# Altium footprint library IPC-SM-782 Section 11.2 SQFP_QFP-Square.PcbLib: 78 footprints (part 7 of 7)
Each footprint in its own frame and in the unit in brackets; x right, y up, seen from the top. Pads: shape width x height; smd on the part's side, far side on the other; paste and mask are expansions set on the pad; w line width, h text height; cw(c..) or ccw(c..) is an arc to the next point about the centre after c.
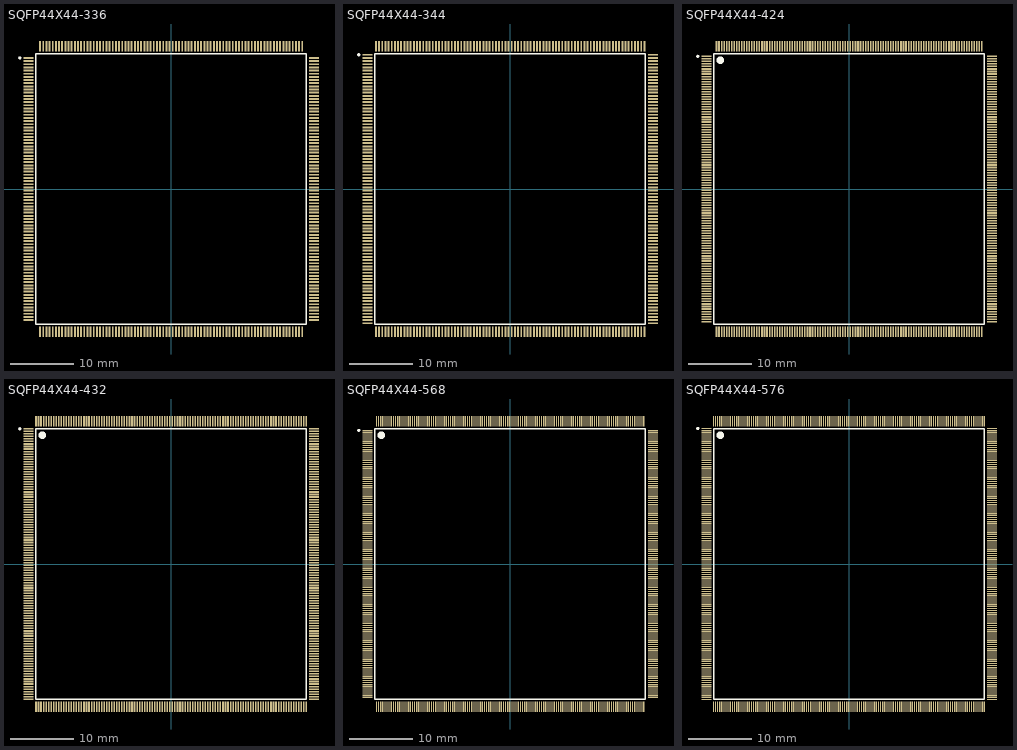
[diagram p6: the footprints below, top view; thin cyan lines are the x and y axes]

## SQFP44X44-336 [mm] "QFP; 336 Leads; Body 44 x 44 mm; Pitch 0.5 mm"
height 4.2
pads (336):
  rect 1.6x0.3 smd: 1(-22.6,20.75) 2(-22.6,20.25) 3(-22.6,19.75) 4(-22.6,19.25) 5(-22.6,18.75) 6(-22.6,18.25) 7(-22.6,17.75) 8(-22.6,17.25) 9(-22.6,16.75) 10(-22.6,16.25) 11(-22.6,15.75) 12(-22.6,15.25) 13(-22.6,14.75) 14(-22.6,14.25) 15(-22.6,13.75) 16(-22.6,13.25) 17(-22.6,12.75) 18(-22.6,12.25) 19(-22.6,11.75) 20(-22.6,11.25) 21(-22.6,10.75) 22(-22.6,10.25) 23(-22.6,9.75) 24(-22.6,9.25) 25(-22.6,8.75) 26(-22.6,8.25) 27(-22.6,7.75) 28(-22.6,7.25) 29(-22.6,6.75) 30(-22.6,6.25) 31(-22.6,5.75) 32(-22.6,5.25) 33(-22.6,4.75) 34(-22.6,4.25) 35(-22.6,3.75) 36(-22.6,3.25) 37(-22.6,2.75) 38(-22.6,2.25) 39(-22.6,1.75) 40(-22.6,1.25) 41(-22.6,0.75) 42(-22.6,0.25) 43(-22.6,-0.25) 44(-22.6,-0.75) 45(-22.6,-1.25) 46(-22.6,-1.75) 47(-22.6,-2.25) 48(-22.6,-2.75) 49(-22.6,-3.25) 50(-22.6,-3.75) 51(-22.6,-4.25) 52(-22.6,-4.75) 53(-22.6,-5.25) 54(-22.6,-5.75) 55(-22.6,-6.25) 56(-22.6,-6.75) 57(-22.6,-7.25) 58(-22.6,-7.75) 59(-22.6,-8.25) 60(-22.6,-8.75) 61(-22.6,-9.25) 62(-22.6,-9.75) 63(-22.6,-10.25) 64(-22.6,-10.75) 65(-22.6,-11.25) 66(-22.6,-11.75) 67(-22.6,-12.25) 68(-22.6,-12.75) 69(-22.6,-13.25) 70(-22.6,-13.75) 71(-22.6,-14.25) 72(-22.6,-14.75) 73(-22.6,-15.25) 74(-22.6,-15.75) 75(-22.6,-16.25) 76(-22.6,-16.75) 77(-22.6,-17.25) 78(-22.6,-17.75) 79(-22.6,-18.25) 80(-22.6,-18.75) 81(-22.6,-19.25) 82(-22.6,-19.75) 83(-22.6,-20.25) 84(-22.6,-20.75) 169(22.6,-20.75) 170(22.6,-20.25) 171(22.6,-19.75) 172(22.6,-19.25) 173(22.6,-18.75) 174(22.6,-18.25) 175(22.6,-17.75) 176(22.6,-17.25) 177(22.6,-16.75) 178(22.6,-16.25) 179(22.6,-15.75) 180(22.6,-15.25) 181(22.6,-14.75) 182(22.6,-14.25) 183(22.6,-13.75) 184(22.6,-13.25) 185(22.6,-12.75) 186(22.6,-12.25) 187(22.6,-11.75) 188(22.6,-11.25) 189(22.6,-10.75) 190(22.6,-10.25) 191(22.6,-9.75) 192(22.6,-9.25) 193(22.6,-8.75) 194(22.6,-8.25) 195(22.6,-7.75) 196(22.6,-7.25) 197(22.6,-6.75) 198(22.6,-6.25) 199(22.6,-5.75) 200(22.6,-5.25) 201(22.6,-4.75) 202(22.6,-4.25) 203(22.6,-3.75) 204(22.6,-3.25) 205(22.6,-2.75) 206(22.6,-2.25) 207(22.6,-1.75) 208(22.6,-1.25) 209(22.6,-0.75) 210(22.6,-0.25) 211(22.6,0.25) 212(22.6,0.75) 213(22.6,1.25) 214(22.6,1.75) 215(22.6,2.25) 216(22.6,2.75) 217(22.6,3.25) 218(22.6,3.75) 219(22.6,4.25) 220(22.6,4.75) 221(22.6,5.25) 222(22.6,5.75) 223(22.6,6.25) 224(22.6,6.75) 225(22.6,7.25) 226(22.6,7.75) 227(22.6,8.25) 228(22.6,8.75) 229(22.6,9.25) 230(22.6,9.75) 231(22.6,10.25) 232(22.6,10.75) 233(22.6,11.25) 234(22.6,11.75) 235(22.6,12.25) 236(22.6,12.75) 237(22.6,13.25) 238(22.6,13.75) 239(22.6,14.25) 240(22.6,14.75) 241(22.6,15.25) 242(22.6,15.75) 243(22.6,16.25) 244(22.6,16.75) 245(22.6,17.25) 246(22.6,17.75) 247(22.6,18.25) 248(22.6,18.75) 249(22.6,19.25) 250(22.6,19.75) 251(22.6,20.25) 252(22.6,20.75)
  rect 0.3x1.6 smd: 85(-20.75,-22.6) 86(-20.25,-22.6) 87(-19.75,-22.6) 88(-19.25,-22.6) 89(-18.75,-22.6) 90(-18.25,-22.6) 91(-17.75,-22.6) 92(-17.25,-22.6) 93(-16.75,-22.6) 94(-16.25,-22.6) 95(-15.75,-22.6) 96(-15.25,-22.6) 97(-14.75,-22.6) 98(-14.25,-22.6) 99(-13.75,-22.6) 100(-13.25,-22.6) 101(-12.75,-22.6) 102(-12.25,-22.6) 103(-11.75,-22.6) 104(-11.25,-22.6) 105(-10.75,-22.6) 106(-10.25,-22.6) 107(-9.75,-22.6) 108(-9.25,-22.6) 109(-8.75,-22.6) 110(-8.25,-22.6) 111(-7.75,-22.6) 112(-7.25,-22.6) 113(-6.75,-22.6) 114(-6.25,-22.6) 115(-5.75,-22.6) 116(-5.25,-22.6) 117(-4.75,-22.6) 118(-4.25,-22.6) 119(-3.75,-22.6) 120(-3.25,-22.6) 121(-2.75,-22.6) 122(-2.25,-22.6) 123(-1.75,-22.6) 124(-1.25,-22.6) 125(-0.75,-22.6) 126(-0.25,-22.6) 127(0.25,-22.6) 128(0.75,-22.6) 129(1.25,-22.6) 130(1.75,-22.6) 131(2.25,-22.6) 132(2.75,-22.6) 133(3.25,-22.6) 134(3.75,-22.6) 135(4.25,-22.6) 136(4.75,-22.6) 137(5.25,-22.6) 138(5.75,-22.6) 139(6.25,-22.6) 140(6.75,-22.6) 141(7.25,-22.6) 142(7.75,-22.6) 143(8.25,-22.6) 144(8.75,-22.6) 145(9.25,-22.6) 146(9.75,-22.6) 147(10.25,-22.6) 148(10.75,-22.6) 149(11.25,-22.6) 150(11.75,-22.6) 151(12.25,-22.6) 152(12.75,-22.6) 153(13.25,-22.6) 154(13.75,-22.6) 155(14.25,-22.6) 156(14.75,-22.6) 157(15.25,-22.6) 158(15.75,-22.6) 159(16.25,-22.6) 160(16.75,-22.6) 161(17.25,-22.6) 162(17.75,-22.6) 163(18.25,-22.6) 164(18.75,-22.6) 165(19.25,-22.6) 166(19.75,-22.6) 167(20.25,-22.6) 168(20.75,-22.6) 253(20.75,22.6) 254(20.25,22.6) 255(19.75,22.6) 256(19.25,22.6) 257(18.75,22.6) 258(18.25,22.6) 259(17.75,22.6) 260(17.25,22.6) 261(16.75,22.6) 262(16.25,22.6) 263(15.75,22.6) 264(15.25,22.6) 265(14.75,22.6) 266(14.25,22.6) 267(13.75,22.6) 268(13.25,22.6) 269(12.75,22.6) 270(12.25,22.6) 271(11.75,22.6) 272(11.25,22.6) 273(10.75,22.6) 274(10.25,22.6) 275(9.75,22.6) 276(9.25,22.6) 277(8.75,22.6) 278(8.25,22.6) 279(7.75,22.6) 280(7.25,22.6) 281(6.75,22.6) 282(6.25,22.6) 283(5.75,22.6) 284(5.25,22.6) 285(4.75,22.6) 286(4.25,22.6) 287(3.75,22.6) 288(3.25,22.6) 289(2.75,22.6) 290(2.25,22.6) 291(1.75,22.6) 292(1.25,22.6) 293(0.75,22.6) 294(0.25,22.6) 295(-0.25,22.6) 296(-0.75,22.6) 297(-1.25,22.6) 298(-1.75,22.6) 299(-2.25,22.6) 300(-2.75,22.6) 301(-3.25,22.6) 302(-3.75,22.6) 303(-4.25,22.6) 304(-4.75,22.6) 305(-5.25,22.6) 306(-5.75,22.6) 307(-6.25,22.6) 308(-6.75,22.6) 309(-7.25,22.6) 310(-7.75,22.6) 311(-8.25,22.6) 312(-8.75,22.6) 313(-9.25,22.6) 314(-9.75,22.6) 315(-10.25,22.6) 316(-10.75,22.6) 317(-11.25,22.6) 318(-11.75,22.6) 319(-12.25,22.6) 320(-12.75,22.6) 321(-13.25,22.6) 322(-13.75,22.6) 323(-14.25,22.6) 324(-14.75,22.6) 325(-15.25,22.6) 326(-15.75,22.6) 327(-16.25,22.6) 328(-16.75,22.6) 329(-17.25,22.6) 330(-17.75,22.6) 331(-18.25,22.6) 332(-18.75,22.6) 333(-19.25,22.6) 334(-19.75,22.6) 335(-20.25,22.6) 336(-20.75,22.6)
Top Overlay:
  circle w0.25: c-23.96,20.75 r0.125
  lines w0.2: -21.4,-21.4 21.4,-21.4 21.4,21.4 -21.4,21.4 -21.4,-21.4

## SQFP44X44-344 [mm] "QFP; 344 Leads; Body 44 x 44 mm; Pitch 0.5 mm"
height 4.2
pads (344):
  rect 1.6x0.3 smd: 1(-22.6,21.25) 2(-22.6,20.75) 3(-22.6,20.25) 4(-22.6,19.75) 5(-22.6,19.25) 6(-22.6,18.75) 7(-22.6,18.25) 8(-22.6,17.75) 9(-22.6,17.25) 10(-22.6,16.75) 11(-22.6,16.25) 12(-22.6,15.75) 13(-22.6,15.25) 14(-22.6,14.75) 15(-22.6,14.25) 16(-22.6,13.75) 17(-22.6,13.25) 18(-22.6,12.75) 19(-22.6,12.25) 20(-22.6,11.75) 21(-22.6,11.25) 22(-22.6,10.75) 23(-22.6,10.25) 24(-22.6,9.75) 25(-22.6,9.25) 26(-22.6,8.75) 27(-22.6,8.25) 28(-22.6,7.75) 29(-22.6,7.25) 30(-22.6,6.75) 31(-22.6,6.25) 32(-22.6,5.75) 33(-22.6,5.25) 34(-22.6,4.75) 35(-22.6,4.25) 36(-22.6,3.75) 37(-22.6,3.25) 38(-22.6,2.75) 39(-22.6,2.25) 40(-22.6,1.75) 41(-22.6,1.25) 42(-22.6,0.75) 43(-22.6,0.25) 44(-22.6,-0.25) 45(-22.6,-0.75) 46(-22.6,-1.25) 47(-22.6,-1.75) 48(-22.6,-2.25) 49(-22.6,-2.75) 50(-22.6,-3.25) 51(-22.6,-3.75) 52(-22.6,-4.25) 53(-22.6,-4.75) 54(-22.6,-5.25) 55(-22.6,-5.75) 56(-22.6,-6.25) 57(-22.6,-6.75) 58(-22.6,-7.25) 59(-22.6,-7.75) 60(-22.6,-8.25) 61(-22.6,-8.75) 62(-22.6,-9.25) 63(-22.6,-9.75) 64(-22.6,-10.25) 65(-22.6,-10.75) 66(-22.6,-11.25) 67(-22.6,-11.75) 68(-22.6,-12.25) 69(-22.6,-12.75) 70(-22.6,-13.25) 71(-22.6,-13.75) 72(-22.6,-14.25) 73(-22.6,-14.75) 74(-22.6,-15.25) 75(-22.6,-15.75) 76(-22.6,-16.25) 77(-22.6,-16.75) 78(-22.6,-17.25) 79(-22.6,-17.75) 80(-22.6,-18.25) 81(-22.6,-18.75) 82(-22.6,-19.25) 83(-22.6,-19.75) 84(-22.6,-20.25) 85(-22.6,-20.75) 86(-22.6,-21.25) 173(22.6,-21.25) 174(22.6,-20.75) 175(22.6,-20.25) 176(22.6,-19.75) 177(22.6,-19.25) 178(22.6,-18.75) 179(22.6,-18.25) 180(22.6,-17.75) 181(22.6,-17.25) 182(22.6,-16.75) 183(22.6,-16.25) 184(22.6,-15.75) 185(22.6,-15.25) 186(22.6,-14.75) 187(22.6,-14.25) 188(22.6,-13.75) 189(22.6,-13.25) 190(22.6,-12.75) 191(22.6,-12.25) 192(22.6,-11.75) 193(22.6,-11.25) 194(22.6,-10.75) 195(22.6,-10.25) 196(22.6,-9.75) 197(22.6,-9.25) 198(22.6,-8.75) 199(22.6,-8.25) 200(22.6,-7.75) 201(22.6,-7.25) 202(22.6,-6.75) 203(22.6,-6.25) 204(22.6,-5.75) 205(22.6,-5.25) 206(22.6,-4.75) 207(22.6,-4.25) 208(22.6,-3.75) 209(22.6,-3.25) 210(22.6,-2.75) 211(22.6,-2.25) 212(22.6,-1.75) 213(22.6,-1.25) 214(22.6,-0.75) 215(22.6,-0.25) 216(22.6,0.25) 217(22.6,0.75) 218(22.6,1.25) 219(22.6,1.75) 220(22.6,2.25) 221(22.6,2.75) 222(22.6,3.25) 223(22.6,3.75) 224(22.6,4.25) 225(22.6,4.75) 226(22.6,5.25) 227(22.6,5.75) 228(22.6,6.25) 229(22.6,6.75) 230(22.6,7.25) 231(22.6,7.75) 232(22.6,8.25) 233(22.6,8.75) 234(22.6,9.25) 235(22.6,9.75) 236(22.6,10.25) 237(22.6,10.75) 238(22.6,11.25) 239(22.6,11.75) 240(22.6,12.25) 241(22.6,12.75) 242(22.6,13.25) 243(22.6,13.75) 244(22.6,14.25) 245(22.6,14.75) 246(22.6,15.25) 247(22.6,15.75) 248(22.6,16.25) 249(22.6,16.75) 250(22.6,17.25) 251(22.6,17.75) 252(22.6,18.25) 253(22.6,18.75) 254(22.6,19.25) 255(22.6,19.75) 256(22.6,20.25) 257(22.6,20.75) 258(22.6,21.25)
  rect 0.3x1.6 smd: 87(-21.25,-22.6) 88(-20.75,-22.6) 89(-20.25,-22.6) 90(-19.75,-22.6) 91(-19.25,-22.6) 92(-18.75,-22.6) 93(-18.25,-22.6) 94(-17.75,-22.6) 95(-17.25,-22.6) 96(-16.75,-22.6) 97(-16.25,-22.6) 98(-15.75,-22.6) 99(-15.25,-22.6) 100(-14.75,-22.6) 101(-14.25,-22.6) 102(-13.75,-22.6) 103(-13.25,-22.6) 104(-12.75,-22.6) 105(-12.25,-22.6) 106(-11.75,-22.6) 107(-11.25,-22.6) 108(-10.75,-22.6) 109(-10.25,-22.6) 110(-9.75,-22.6) 111(-9.25,-22.6) 112(-8.75,-22.6) 113(-8.25,-22.6) 114(-7.75,-22.6) 115(-7.25,-22.6) 116(-6.75,-22.6) 117(-6.25,-22.6) 118(-5.75,-22.6) 119(-5.25,-22.6) 120(-4.75,-22.6) 121(-4.25,-22.6) 122(-3.75,-22.6) 123(-3.25,-22.6) 124(-2.75,-22.6) 125(-2.25,-22.6) 126(-1.75,-22.6) 127(-1.25,-22.6) 128(-0.75,-22.6) 129(-0.25,-22.6) 130(0.25,-22.6) 131(0.75,-22.6) 132(1.25,-22.6) 133(1.75,-22.6) 134(2.25,-22.6) 135(2.75,-22.6) 136(3.25,-22.6) 137(3.75,-22.6) 138(4.25,-22.6) 139(4.75,-22.6) 140(5.25,-22.6) 141(5.75,-22.6) 142(6.25,-22.6) 143(6.75,-22.6) 144(7.25,-22.6) 145(7.75,-22.6) 146(8.25,-22.6) 147(8.75,-22.6) 148(9.25,-22.6) 149(9.75,-22.6) 150(10.25,-22.6) 151(10.75,-22.6) 152(11.25,-22.6) 153(11.75,-22.6) 154(12.25,-22.6) 155(12.75,-22.6) 156(13.25,-22.6) 157(13.75,-22.6) 158(14.25,-22.6) 159(14.75,-22.6) 160(15.25,-22.6) 161(15.75,-22.6) 162(16.25,-22.6) 163(16.75,-22.6) 164(17.25,-22.6) 165(17.75,-22.6) 166(18.25,-22.6) 167(18.75,-22.6) 168(19.25,-22.6) 169(19.75,-22.6) 170(20.25,-22.6) 171(20.75,-22.6) 172(21.25,-22.6) 259(21.25,22.6) 260(20.75,22.6) 261(20.25,22.6) 262(19.75,22.6) 263(19.25,22.6) 264(18.75,22.6) 265(18.25,22.6) 266(17.75,22.6) 267(17.25,22.6) 268(16.75,22.6) 269(16.25,22.6) 270(15.75,22.6) 271(15.25,22.6) 272(14.75,22.6) 273(14.25,22.6) 274(13.75,22.6) 275(13.25,22.6) 276(12.75,22.6) 277(12.25,22.6) 278(11.75,22.6) 279(11.25,22.6) 280(10.75,22.6) 281(10.25,22.6) 282(9.75,22.6) 283(9.25,22.6) 284(8.75,22.6) 285(8.25,22.6) 286(7.75,22.6) 287(7.25,22.6) 288(6.75,22.6) 289(6.25,22.6) 290(5.75,22.6) 291(5.25,22.6) 292(4.75,22.6) 293(4.25,22.6) 294(3.75,22.6) 295(3.25,22.6) 296(2.75,22.6) 297(2.25,22.6) 298(1.75,22.6) 299(1.25,22.6) 300(0.75,22.6) 301(0.25,22.6) 302(-0.25,22.6) 303(-0.75,22.6) 304(-1.25,22.6) 305(-1.75,22.6) 306(-2.25,22.6) 307(-2.75,22.6) 308(-3.25,22.6) 309(-3.75,22.6) 310(-4.25,22.6) 311(-4.75,22.6) 312(-5.25,22.6) 313(-5.75,22.6) 314(-6.25,22.6) 315(-6.75,22.6) 316(-7.25,22.6) 317(-7.75,22.6) 318(-8.25,22.6) 319(-8.75,22.6) 320(-9.25,22.6) 321(-9.75,22.6) 322(-10.25,22.6) 323(-10.75,22.6) 324(-11.25,22.6) 325(-11.75,22.6) 326(-12.25,22.6) 327(-12.75,22.6) 328(-13.25,22.6) 329(-13.75,22.6) 330(-14.25,22.6) 331(-14.75,22.6) 332(-15.25,22.6) 333(-15.75,22.6) 334(-16.25,22.6) 335(-16.75,22.6) 336(-17.25,22.6) 337(-17.75,22.6) 338(-18.25,22.6) 339(-18.75,22.6) 340(-19.25,22.6) 341(-19.75,22.6) 342(-20.25,22.6) 343(-20.75,22.6) 344(-21.25,22.6)
Top Overlay:
  circle w0.25: c-23.96,21.25 r0.125
  lines w0.2: -21.4,-21.4 21.4,-21.4 21.4,21.4 -21.4,21.4 -21.4,-21.4

## SQFP44X44-424 [mm] "QFP; 424 Leads; Body 44 x 44 mm; Pitch 0.4 mm"
height 4.2
pads (424):
  rect 1.6x0.25 smd: 1(-22.6,21) 2(-22.6,20.6) 3(-22.6,20.2) 4(-22.6,19.8) 5(-22.6,19.4) 6(-22.6,19) 7(-22.6,18.6) 8(-22.6,18.2) 9(-22.6,17.8) 10(-22.6,17.4) 11(-22.6,17) 12(-22.6,16.6) 13(-22.6,16.2) 14(-22.6,15.8) 15(-22.6,15.4) 16(-22.6,15) 17(-22.6,14.6) 18(-22.6,14.2) 19(-22.6,13.8) 20(-22.6,13.4) 21(-22.6,13) 22(-22.6,12.6) 23(-22.6,12.2) 24(-22.6,11.8) 25(-22.6,11.4) 26(-22.6,11) 27(-22.6,10.6) 28(-22.6,10.2) 29(-22.6,9.8) 30(-22.6,9.4) 31(-22.6,9) 32(-22.6,8.6) 33(-22.6,8.2) 34(-22.6,7.8) 35(-22.6,7.4) 36(-22.6,7) 37(-22.6,6.6) 38(-22.6,6.2) 39(-22.6,5.8) 40(-22.6,5.4) 41(-22.6,5) 42(-22.6,4.6) 43(-22.6,4.2) 44(-22.6,3.8) 45(-22.6,3.4) 46(-22.6,3) 47(-22.6,2.6) 48(-22.6,2.2) 49(-22.6,1.8) 50(-22.6,1.4) 51(-22.6,1) 52(-22.6,0.6) 53(-22.6,0.2) 54(-22.6,-0.2) 55(-22.6,-0.6) 56(-22.6,-1) 57(-22.6,-1.4) 58(-22.6,-1.8) 59(-22.6,-2.2) 60(-22.6,-2.6) 61(-22.6,-3) 62(-22.6,-3.4) 63(-22.6,-3.8) 64(-22.6,-4.2) 65(-22.6,-4.6) 66(-22.6,-5) 67(-22.6,-5.4) 68(-22.6,-5.8) 69(-22.6,-6.2) 70(-22.6,-6.6) 71(-22.6,-7) 72(-22.6,-7.4) 73(-22.6,-7.8) 74(-22.6,-8.2) 75(-22.6,-8.6) 76(-22.6,-9) 77(-22.6,-9.4) 78(-22.6,-9.8) 79(-22.6,-10.2) 80(-22.6,-10.6) 81(-22.6,-11) 82(-22.6,-11.4) 83(-22.6,-11.8) 84(-22.6,-12.2) 85(-22.6,-12.6) 86(-22.6,-13) 87(-22.6,-13.4) 88(-22.6,-13.8) 89(-22.6,-14.2) 90(-22.6,-14.6) 91(-22.6,-15) 92(-22.6,-15.4) 93(-22.6,-15.8) 94(-22.6,-16.2) 95(-22.6,-16.6) 96(-22.6,-17) 97(-22.6,-17.4) 98(-22.6,-17.8) 99(-22.6,-18.2) 100(-22.6,-18.6) 101(-22.6,-19) 102(-22.6,-19.4) 103(-22.6,-19.8) 104(-22.6,-20.2) 105(-22.6,-20.6) 106(-22.6,-21) 213(22.6,-21) 214(22.6,-20.6) 215(22.6,-20.2) 216(22.6,-19.8) 217(22.6,-19.4) 218(22.6,-19) 219(22.6,-18.6) 220(22.6,-18.2) 221(22.6,-17.8) 222(22.6,-17.4) 223(22.6,-17) 224(22.6,-16.6) 225(22.6,-16.2) 226(22.6,-15.8) 227(22.6,-15.4) 228(22.6,-15) 229(22.6,-14.6) 230(22.6,-14.2) 231(22.6,-13.8) 232(22.6,-13.4) 233(22.6,-13) 234(22.6,-12.6) 235(22.6,-12.2) 236(22.6,-11.8) 237(22.6,-11.4) 238(22.6,-11) 239(22.6,-10.6) 240(22.6,-10.2) 241(22.6,-9.8) 242(22.6,-9.4) 243(22.6,-9) 244(22.6,-8.6) 245(22.6,-8.2) 246(22.6,-7.8) 247(22.6,-7.4) 248(22.6,-7) 249(22.6,-6.6) 250(22.6,-6.2) 251(22.6,-5.8) 252(22.6,-5.4) 253(22.6,-5) 254(22.6,-4.6) 255(22.6,-4.2) 256(22.6,-3.8) 257(22.6,-3.4) 258(22.6,-3) 259(22.6,-2.6) 260(22.6,-2.2) 261(22.6,-1.8) 262(22.6,-1.4) 263(22.6,-1) 264(22.6,-0.6) 265(22.6,-0.2) 266(22.6,0.2) 267(22.6,0.6) 268(22.6,1) 269(22.6,1.4) 270(22.6,1.8) 271(22.6,2.2) 272(22.6,2.6) 273(22.6,3) 274(22.6,3.4) 275(22.6,3.8) 276(22.6,4.2) 277(22.6,4.6) 278(22.6,5) 279(22.6,5.4) 280(22.6,5.8) 281(22.6,6.2) 282(22.6,6.6) 283(22.6,7) 284(22.6,7.4) 285(22.6,7.8) 286(22.6,8.2) 287(22.6,8.6) 288(22.6,9) 289(22.6,9.4) 290(22.6,9.8) 291(22.6,10.2) 292(22.6,10.6) 293(22.6,11) 294(22.6,11.4) 295(22.6,11.8) 296(22.6,12.2) 297(22.6,12.6) 298(22.6,13) 299(22.6,13.4) 300(22.6,13.8) 301(22.6,14.2) 302(22.6,14.6) 303(22.6,15) 304(22.6,15.4) 305(22.6,15.8) 306(22.6,16.2) 307(22.6,16.6) 308(22.6,17) 309(22.6,17.4) 310(22.6,17.8) 311(22.6,18.2) 312(22.6,18.6) 313(22.6,19) 314(22.6,19.4) 315(22.6,19.8) 316(22.6,20.2) 317(22.6,20.6) 318(22.6,21)
  rect 0.25x1.6 smd: 107(-21,-22.6) 108(-20.6,-22.6) 109(-20.2,-22.6) 110(-19.8,-22.6) 111(-19.4,-22.6) 112(-19,-22.6) 113(-18.6,-22.6) 114(-18.2,-22.6) 115(-17.8,-22.6) 116(-17.4,-22.6) 117(-17,-22.6) 118(-16.6,-22.6) 119(-16.2,-22.6) 120(-15.8,-22.6) 121(-15.4,-22.6) 122(-15,-22.6) 123(-14.6,-22.6) 124(-14.2,-22.6) 125(-13.8,-22.6) 126(-13.4,-22.6) 127(-13,-22.6) 128(-12.6,-22.6) 129(-12.2,-22.6) 130(-11.8,-22.6) 131(-11.4,-22.6) 132(-11,-22.6) 133(-10.6,-22.6) 134(-10.2,-22.6) 135(-9.8,-22.6) 136(-9.4,-22.6) 137(-9,-22.6) 138(-8.6,-22.6) 139(-8.2,-22.6) 140(-7.8,-22.6) 141(-7.4,-22.6) 142(-7,-22.6) 143(-6.6,-22.6) 144(-6.2,-22.6) 145(-5.8,-22.6) 146(-5.4,-22.6) 147(-5,-22.6) 148(-4.6,-22.6) 149(-4.2,-22.6) 150(-3.8,-22.6) 151(-3.4,-22.6) 152(-3,-22.6) 153(-2.6,-22.6) 154(-2.2,-22.6) 155(-1.8,-22.6) 156(-1.4,-22.6) 157(-1,-22.6) 158(-0.6,-22.6) 159(-0.2,-22.6) 160(0.2,-22.6) 161(0.6,-22.6) 162(1,-22.6) 163(1.4,-22.6) 164(1.8,-22.6) 165(2.2,-22.6) 166(2.6,-22.6) 167(3,-22.6) 168(3.4,-22.6) 169(3.8,-22.6) 170(4.2,-22.6) 171(4.6,-22.6) 172(5,-22.6) 173(5.4,-22.6) 174(5.8,-22.6) 175(6.2,-22.6) 176(6.6,-22.6) 177(7,-22.6) 178(7.4,-22.6) 179(7.8,-22.6) 180(8.2,-22.6) 181(8.6,-22.6) 182(9,-22.6) 183(9.4,-22.6) 184(9.8,-22.6) 185(10.2,-22.6) 186(10.6,-22.6) 187(11,-22.6) 188(11.4,-22.6) 189(11.8,-22.6) 190(12.2,-22.6) 191(12.6,-22.6) 192(13,-22.6) 193(13.4,-22.6) 194(13.8,-22.6) 195(14.2,-22.6) 196(14.6,-22.6) 197(15,-22.6) 198(15.4,-22.6) 199(15.8,-22.6) 200(16.2,-22.6) 201(16.6,-22.6) 202(17,-22.6) 203(17.4,-22.6) 204(17.8,-22.6) 205(18.2,-22.6) 206(18.6,-22.6) 207(19,-22.6) 208(19.4,-22.6) 209(19.8,-22.6) 210(20.2,-22.6) 211(20.6,-22.6) 212(21,-22.6) 319(21,22.6) 320(20.6,22.6) 321(20.2,22.6) 322(19.8,22.6) 323(19.4,22.6) 324(19,22.6) 325(18.6,22.6) 326(18.2,22.6) 327(17.8,22.6) 328(17.4,22.6) 329(17,22.6) 330(16.6,22.6) 331(16.2,22.6) 332(15.8,22.6) 333(15.4,22.6) 334(15,22.6) 335(14.6,22.6) 336(14.2,22.6) 337(13.8,22.6) 338(13.4,22.6) 339(13,22.6) 340(12.6,22.6) 341(12.2,22.6) 342(11.8,22.6) 343(11.4,22.6) 344(11,22.6) 345(10.6,22.6) 346(10.2,22.6) 347(9.8,22.6) 348(9.4,22.6) 349(9,22.6) 350(8.6,22.6) 351(8.2,22.6) 352(7.8,22.6) 353(7.4,22.6) 354(7,22.6) 355(6.6,22.6) 356(6.2,22.6) 357(5.8,22.6) 358(5.4,22.6) 359(5,22.6) 360(4.6,22.6) 361(4.2,22.6) 362(3.8,22.6) 363(3.4,22.6) 364(3,22.6) 365(2.6,22.6) 366(2.2,22.6) 367(1.8,22.6) 368(1.4,22.6) 369(1,22.6) 370(0.6,22.6) 371(0.2,22.6) 372(-0.2,22.6) 373(-0.6,22.6) 374(-1,22.6) 375(-1.4,22.6) 376(-1.8,22.6) 377(-2.2,22.6) 378(-2.6,22.6) 379(-3,22.6) 380(-3.4,22.6) 381(-3.8,22.6) 382(-4.2,22.6) 383(-4.6,22.6) 384(-5,22.6) 385(-5.4,22.6) 386(-5.8,22.6) 387(-6.2,22.6) 388(-6.6,22.6) 389(-7,22.6) 390(-7.4,22.6) 391(-7.8,22.6) 392(-8.2,22.6) 393(-8.6,22.6) 394(-9,22.6) 395(-9.4,22.6) 396(-9.8,22.6) 397(-10.2,22.6) 398(-10.6,22.6) 399(-11,22.6) 400(-11.4,22.6) 401(-11.8,22.6) 402(-12.2,22.6) 403(-12.6,22.6) 404(-13,22.6) 405(-13.4,22.6) 406(-13.8,22.6) 407(-14.2,22.6) 408(-14.6,22.6) 409(-15,22.6) 410(-15.4,22.6) 411(-15.8,22.6) 412(-16.2,22.6) 413(-16.6,22.6) 414(-17,22.6) 415(-17.4,22.6) 416(-17.8,22.6) 417(-18.2,22.6) 418(-18.6,22.6) 419(-19,22.6) 420(-19.4,22.6) 421(-19.8,22.6) 422(-20.2,22.6) 423(-20.6,22.6) 424(-21,22.6)
Top Overlay:
  circle w0.25: c-23.96,21 r0.125
  circle w0.6: c-20.4,20.4 r0.3
  lines w0.2: -21.4,-21.4 -21.4,21.4 21.4,21.4 21.4,-21.4 -21.4,-21.4

## SQFP44X44-432 [mm] "QFP; 432 Leads; Body 44 x 44 mm; Pitch 0.4 mm"
height 4.2
pads (432):
  rect 1.6x0.25 smd: 1(-22.6,21.4) 2(-22.6,21) 3(-22.6,20.6) 4(-22.6,20.2) 5(-22.6,19.8) 6(-22.6,19.4) 7(-22.6,19) 8(-22.6,18.6) 9(-22.6,18.2) 10(-22.6,17.8) 11(-22.6,17.4) 12(-22.6,17) 13(-22.6,16.6) 14(-22.6,16.2) 15(-22.6,15.8) 16(-22.6,15.4) 17(-22.6,15) 18(-22.6,14.6) 19(-22.6,14.2) 20(-22.6,13.8) 21(-22.6,13.4) 22(-22.6,13) 23(-22.6,12.6) 24(-22.6,12.2) 25(-22.6,11.8) 26(-22.6,11.4) 27(-22.6,11) 28(-22.6,10.6) 29(-22.6,10.2) 30(-22.6,9.8) 31(-22.6,9.4) 32(-22.6,9) 33(-22.6,8.6) 34(-22.6,8.2) 35(-22.6,7.8) 36(-22.6,7.4) 37(-22.6,7) 38(-22.6,6.6) 39(-22.6,6.2) 40(-22.6,5.8) 41(-22.6,5.4) 42(-22.6,5) 43(-22.6,4.6) 44(-22.6,4.2) 45(-22.6,3.8) 46(-22.6,3.4) 47(-22.6,3) 48(-22.6,2.6) 49(-22.6,2.2) 50(-22.6,1.8) 51(-22.6,1.4) 52(-22.6,1) 53(-22.6,0.6) 54(-22.6,0.2) 55(-22.6,-0.2) 56(-22.6,-0.6) 57(-22.6,-1) 58(-22.6,-1.4) 59(-22.6,-1.8) 60(-22.6,-2.2) 61(-22.6,-2.6) 62(-22.6,-3) 63(-22.6,-3.4) 64(-22.6,-3.8) 65(-22.6,-4.2) 66(-22.6,-4.6) 67(-22.6,-5) 68(-22.6,-5.4) 69(-22.6,-5.8) 70(-22.6,-6.2) 71(-22.6,-6.6) 72(-22.6,-7) 73(-22.6,-7.4) 74(-22.6,-7.8) 75(-22.6,-8.2) 76(-22.6,-8.6) 77(-22.6,-9) 78(-22.6,-9.4) 79(-22.6,-9.8) 80(-22.6,-10.2) 81(-22.6,-10.6) 82(-22.6,-11) 83(-22.6,-11.4) 84(-22.6,-11.8) 85(-22.6,-12.2) 86(-22.6,-12.6) 87(-22.6,-13) 88(-22.6,-13.4) 89(-22.6,-13.8) 90(-22.6,-14.2) 91(-22.6,-14.6) 92(-22.6,-15) 93(-22.6,-15.4) 94(-22.6,-15.8) 95(-22.6,-16.2) 96(-22.6,-16.6) 97(-22.6,-17) 98(-22.6,-17.4) 99(-22.6,-17.8) 100(-22.6,-18.2) 101(-22.6,-18.6) 102(-22.6,-19) 103(-22.6,-19.4) 104(-22.6,-19.8) 105(-22.6,-20.2) 106(-22.6,-20.6) 107(-22.6,-21) 108(-22.6,-21.4) 217(22.6,-21.4) 218(22.6,-21) 219(22.6,-20.6) 220(22.6,-20.2) 221(22.6,-19.8) 222(22.6,-19.4) 223(22.6,-19) 224(22.6,-18.6) 225(22.6,-18.2) 226(22.6,-17.8) 227(22.6,-17.4) 228(22.6,-17) 229(22.6,-16.6) 230(22.6,-16.2) 231(22.6,-15.8) 232(22.6,-15.4) 233(22.6,-15) 234(22.6,-14.6) 235(22.6,-14.2) 236(22.6,-13.8) 237(22.6,-13.4) 238(22.6,-13) 239(22.6,-12.6) 240(22.6,-12.2) 241(22.6,-11.8) 242(22.6,-11.4) 243(22.6,-11) 244(22.6,-10.6) 245(22.6,-10.2) 246(22.6,-9.8) 247(22.6,-9.4) 248(22.6,-9) 249(22.6,-8.6) 250(22.6,-8.2) 251(22.6,-7.8) 252(22.6,-7.4) 253(22.6,-7) 254(22.6,-6.6) 255(22.6,-6.2) 256(22.6,-5.8) 257(22.6,-5.4) 258(22.6,-5) 259(22.6,-4.6) 260(22.6,-4.2) 261(22.6,-3.8) 262(22.6,-3.4) 263(22.6,-3) 264(22.6,-2.6) 265(22.6,-2.2) 266(22.6,-1.8) 267(22.6,-1.4) 268(22.6,-1) 269(22.6,-0.6) 270(22.6,-0.2) 271(22.6,0.2) 272(22.6,0.6) 273(22.6,1) 274(22.6,1.4) 275(22.6,1.8) 276(22.6,2.2) 277(22.6,2.6) 278(22.6,3) 279(22.6,3.4) 280(22.6,3.8) 281(22.6,4.2) 282(22.6,4.6) 283(22.6,5) 284(22.6,5.4) 285(22.6,5.8) 286(22.6,6.2) 287(22.6,6.6) 288(22.6,7) 289(22.6,7.4) 290(22.6,7.8) 291(22.6,8.2) 292(22.6,8.6) 293(22.6,9) 294(22.6,9.4) 295(22.6,9.8) 296(22.6,10.2) 297(22.6,10.6) 298(22.6,11) 299(22.6,11.4) 300(22.6,11.8) 301(22.6,12.2) 302(22.6,12.6) 303(22.6,13) 304(22.6,13.4) 305(22.6,13.8) 306(22.6,14.2) 307(22.6,14.6) 308(22.6,15) 309(22.6,15.4) 310(22.6,15.8) 311(22.6,16.2) 312(22.6,16.6) 313(22.6,17) 314(22.6,17.4) 315(22.6,17.8) 316(22.6,18.2) 317(22.6,18.6) 318(22.6,19) 319(22.6,19.4) 320(22.6,19.8) 321(22.6,20.2) 322(22.6,20.6) 323(22.6,21) 324(22.6,21.4)
  rect 0.25x1.6 smd: 109(-21.4,-22.6) 110(-21,-22.6) 111(-20.6,-22.6) 112(-20.2,-22.6) 113(-19.8,-22.6) 114(-19.4,-22.6) 115(-19,-22.6) 116(-18.6,-22.6) 117(-18.2,-22.6) 118(-17.8,-22.6) 119(-17.4,-22.6) 120(-17,-22.6) 121(-16.6,-22.6) 122(-16.2,-22.6) 123(-15.8,-22.6) 124(-15.4,-22.6) 125(-15,-22.6) 126(-14.6,-22.6) 127(-14.2,-22.6) 128(-13.8,-22.6) 129(-13.4,-22.6) 130(-13,-22.6) 131(-12.6,-22.6) 132(-12.2,-22.6) 133(-11.8,-22.6) 134(-11.4,-22.6) 135(-11,-22.6) 136(-10.6,-22.6) 137(-10.2,-22.6) 138(-9.8,-22.6) 139(-9.4,-22.6) 140(-9,-22.6) 141(-8.6,-22.6) 142(-8.2,-22.6) 143(-7.8,-22.6) 144(-7.4,-22.6) 145(-7,-22.6) 146(-6.6,-22.6) 147(-6.2,-22.6) 148(-5.8,-22.6) 149(-5.4,-22.6) 150(-5,-22.6) 151(-4.6,-22.6) 152(-4.2,-22.6) 153(-3.8,-22.6) 154(-3.4,-22.6) 155(-3,-22.6) 156(-2.6,-22.6) 157(-2.2,-22.6) 158(-1.8,-22.6) 159(-1.4,-22.6) 160(-1,-22.6) 161(-0.6,-22.6) 162(-0.2,-22.6) 163(0.2,-22.6) 164(0.6,-22.6) 165(1,-22.6) 166(1.4,-22.6) 167(1.8,-22.6) 168(2.2,-22.6) 169(2.6,-22.6) 170(3,-22.6) 171(3.4,-22.6) 172(3.8,-22.6) 173(4.2,-22.6) 174(4.6,-22.6) 175(5,-22.6) 176(5.4,-22.6) 177(5.8,-22.6) 178(6.2,-22.6) 179(6.6,-22.6) 180(7,-22.6) 181(7.4,-22.6) 182(7.8,-22.6) 183(8.2,-22.6) 184(8.6,-22.6) 185(9,-22.6) 186(9.4,-22.6) 187(9.8,-22.6) 188(10.2,-22.6) 189(10.6,-22.6) 190(11,-22.6) 191(11.4,-22.6) 192(11.8,-22.6) 193(12.2,-22.6) 194(12.6,-22.6) 195(13,-22.6) 196(13.4,-22.6) 197(13.8,-22.6) 198(14.2,-22.6) 199(14.6,-22.6) 200(15,-22.6) 201(15.4,-22.6) 202(15.8,-22.6) 203(16.2,-22.6) 204(16.6,-22.6) 205(17,-22.6) 206(17.4,-22.6) 207(17.8,-22.6) 208(18.2,-22.6) 209(18.6,-22.6) 210(19,-22.6) 211(19.4,-22.6) 212(19.8,-22.6) 213(20.2,-22.6) 214(20.6,-22.6) 215(21,-22.6) 216(21.4,-22.6) 325(21.4,22.6) 326(21,22.6) 327(20.6,22.6) 328(20.2,22.6) 329(19.8,22.6) 330(19.4,22.6) 331(19,22.6) 332(18.6,22.6) 333(18.2,22.6) 334(17.8,22.6) 335(17.4,22.6) 336(17,22.6) 337(16.6,22.6) 338(16.2,22.6) 339(15.8,22.6) 340(15.4,22.6) 341(15,22.6) 342(14.6,22.6) 343(14.2,22.6) 344(13.8,22.6) 345(13.4,22.6) 346(13,22.6) 347(12.6,22.6) 348(12.2,22.6) 349(11.8,22.6) 350(11.4,22.6) 351(11,22.6) 352(10.6,22.6) 353(10.2,22.6) 354(9.8,22.6) 355(9.4,22.6) 356(9,22.6) 357(8.6,22.6) 358(8.2,22.6) 359(7.8,22.6) 360(7.4,22.6) 361(7,22.6) 362(6.6,22.6) 363(6.2,22.6) 364(5.8,22.6) 365(5.4,22.6) 366(5,22.6) 367(4.6,22.6) 368(4.2,22.6) 369(3.8,22.6) 370(3.4,22.6) 371(3,22.6) 372(2.6,22.6) 373(2.2,22.6) 374(1.8,22.6) 375(1.4,22.6) 376(1,22.6) 377(0.6,22.6) 378(0.2,22.6) 379(-0.2,22.6) 380(-0.6,22.6) 381(-1,22.6) 382(-1.4,22.6) 383(-1.8,22.6) 384(-2.2,22.6) 385(-2.6,22.6) 386(-3,22.6) 387(-3.4,22.6) 388(-3.8,22.6) 389(-4.2,22.6) 390(-4.6,22.6) 391(-5,22.6) 392(-5.4,22.6) 393(-5.8,22.6) 394(-6.2,22.6) 395(-6.6,22.6) 396(-7,22.6) 397(-7.4,22.6) 398(-7.8,22.6) 399(-8.2,22.6) 400(-8.6,22.6) 401(-9,22.6) 402(-9.4,22.6) 403(-9.8,22.6) 404(-10.2,22.6) 405(-10.6,22.6) 406(-11,22.6) 407(-11.4,22.6) 408(-11.8,22.6) 409(-12.2,22.6) 410(-12.6,22.6) 411(-13,22.6) 412(-13.4,22.6) 413(-13.8,22.6) 414(-14.2,22.6) 415(-14.6,22.6) 416(-15,22.6) 417(-15.4,22.6) 418(-15.8,22.6) 419(-16.2,22.6) 420(-16.6,22.6) 421(-17,22.6) 422(-17.4,22.6) 423(-17.8,22.6) 424(-18.2,22.6) 425(-18.6,22.6) 426(-19,22.6) 427(-19.4,22.6) 428(-19.8,22.6) 429(-20.2,22.6) 430(-20.6,22.6) 431(-21,22.6) 432(-21.4,22.6)
Top Overlay:
  circle w0.25: c-23.96,21.4 r0.125
  circle w0.6: c-20.4,20.4 r0.3
  lines w0.2: -21.4,-21.4 -21.4,21.4 21.4,21.4 21.4,-21.4 -21.4,-21.4

## SQFP44X44-568 [mm] "QFP; 568 Leads; Body 44 x 44 mm; Pitch 0.3 mm"
height 4.2
pads (568):
  rect 1.6x0.17 smd: 1(-22.6,21.15) 2(-22.6,20.85) 3(-22.6,20.55) 4(-22.6,20.25) 5(-22.6,19.95) 6(-22.6,19.65) 7(-22.6,19.35) 8(-22.6,19.05) 9(-22.6,18.75) 10(-22.6,18.45) 11(-22.6,18.15) 12(-22.6,17.85) 13(-22.6,17.55) 14(-22.6,17.25) 15(-22.6,16.95) 16(-22.6,16.65) 17(-22.6,16.35) 18(-22.6,16.05) 19(-22.6,15.75) 20(-22.6,15.45) 21(-22.6,15.15) 22(-22.6,14.85) 23(-22.6,14.55) 24(-22.6,14.25) 25(-22.6,13.95) 26(-22.6,13.65) 27(-22.6,13.35) 28(-22.6,13.05) 29(-22.6,12.75) 30(-22.6,12.45) 31(-22.6,12.15) 32(-22.6,11.85) 33(-22.6,11.55) 34(-22.6,11.25) 35(-22.6,10.95) 36(-22.6,10.65) 37(-22.6,10.35) 38(-22.6,10.05) 39(-22.6,9.75) 40(-22.6,9.45) 41(-22.6,9.15) 42(-22.6,8.85) 43(-22.6,8.55) 44(-22.6,8.25) 45(-22.6,7.95) 46(-22.6,7.65) 47(-22.6,7.35) 48(-22.6,7.05) 49(-22.6,6.75) 50(-22.6,6.45) 51(-22.6,6.15) 52(-22.6,5.85) 53(-22.6,5.55) 54(-22.6,5.25) 55(-22.6,4.95) 56(-22.6,4.65) 57(-22.6,4.35) 58(-22.6,4.05) 59(-22.6,3.75) 60(-22.6,3.45) 61(-22.6,3.15) 62(-22.6,2.85) 63(-22.6,2.55) 64(-22.6,2.25) 65(-22.6,1.95) 66(-22.6,1.65) 67(-22.6,1.35) 68(-22.6,1.05) 69(-22.6,0.75) 70(-22.6,0.45) 71(-22.6,0.15) 72(-22.6,-0.15) 73(-22.6,-0.45) 74(-22.6,-0.75) 75(-22.6,-1.05) 76(-22.6,-1.35) 77(-22.6,-1.65) 78(-22.6,-1.95) 79(-22.6,-2.25) 80(-22.6,-2.55) 81(-22.6,-2.85) 82(-22.6,-3.15) 83(-22.6,-3.45) 84(-22.6,-3.75) 85(-22.6,-4.05) 86(-22.6,-4.35) 87(-22.6,-4.65) 88(-22.6,-4.95) 89(-22.6,-5.25) 90(-22.6,-5.55) 91(-22.6,-5.85) 92(-22.6,-6.15) 93(-22.6,-6.45) 94(-22.6,-6.75) 95(-22.6,-7.05) 96(-22.6,-7.35) 97(-22.6,-7.65) 98(-22.6,-7.95) 99(-22.6,-8.25) 100(-22.6,-8.55) 101(-22.6,-8.85) 102(-22.6,-9.15) 103(-22.6,-9.45) 104(-22.6,-9.75) 105(-22.6,-10.05) 106(-22.6,-10.35) 107(-22.6,-10.65) 108(-22.6,-10.95) 109(-22.6,-11.25) 110(-22.6,-11.55) 111(-22.6,-11.85) 112(-22.6,-12.15) 113(-22.6,-12.45) 114(-22.6,-12.75) 115(-22.6,-13.05) 116(-22.6,-13.35) 117(-22.6,-13.65) 118(-22.6,-13.95) 119(-22.6,-14.25) 120(-22.6,-14.55) 121(-22.6,-14.85) 122(-22.6,-15.15) 123(-22.6,-15.45) 124(-22.6,-15.75) 125(-22.6,-16.05) 126(-22.6,-16.35) 127(-22.6,-16.65) 128(-22.6,-16.95) 129(-22.6,-17.25) 130(-22.6,-17.55) 131(-22.6,-17.85) 132(-22.6,-18.15) 133(-22.6,-18.45) 134(-22.6,-18.75) 135(-22.6,-19.05) 136(-22.6,-19.35) 137(-22.6,-19.65) 138(-22.6,-19.95) 139(-22.6,-20.25) 140(-22.6,-20.55) 141(-22.6,-20.85) 142(-22.6,-21.15) 285(22.6,-21.15) 286(22.6,-20.85) 287(22.6,-20.55) 288(22.6,-20.25) 289(22.6,-19.95) 290(22.6,-19.65) 291(22.6,-19.35) 292(22.6,-19.05) 293(22.6,-18.75) 294(22.6,-18.45) 295(22.6,-18.15) 296(22.6,-17.85) 297(22.6,-17.55) 298(22.6,-17.25) 299(22.6,-16.95) 300(22.6,-16.65) 301(22.6,-16.35) 302(22.6,-16.05) 303(22.6,-15.75) 304(22.6,-15.45) 305(22.6,-15.15) 306(22.6,-14.85) 307(22.6,-14.55) 308(22.6,-14.25) 309(22.6,-13.95) 310(22.6,-13.65) 311(22.6,-13.35) 312(22.6,-13.05) 313(22.6,-12.75) 314(22.6,-12.45) 315(22.6,-12.15) 316(22.6,-11.85) 317(22.6,-11.55) 318(22.6,-11.25) 319(22.6,-10.95) 320(22.6,-10.65) 321(22.6,-10.35) 322(22.6,-10.05) 323(22.6,-9.75) 324(22.6,-9.45) 325(22.6,-9.15) 326(22.6,-8.85) 327(22.6,-8.55) 328(22.6,-8.25) 329(22.6,-7.95) 330(22.6,-7.65) 331(22.6,-7.35) 332(22.6,-7.05) 333(22.6,-6.75) 334(22.6,-6.45) 335(22.6,-6.15) 336(22.6,-5.85) 337(22.6,-5.55) 338(22.6,-5.25) 339(22.6,-4.95) 340(22.6,-4.65) 341(22.6,-4.35) 342(22.6,-4.05) 343(22.6,-3.75) 344(22.6,-3.45) 345(22.6,-3.15) 346(22.6,-2.85) 347(22.6,-2.55) 348(22.6,-2.25) 349(22.6,-1.95) 350(22.6,-1.65) 351(22.6,-1.35) 352(22.6,-1.05) 353(22.6,-0.75) 354(22.6,-0.45) 355(22.6,-0.15) 356(22.6,0.15) 357(22.6,0.45) 358(22.6,0.75) 359(22.6,1.05) 360(22.6,1.35) 361(22.6,1.65) 362(22.6,1.95) 363(22.6,2.25) 364(22.6,2.55) 365(22.6,2.85) 366(22.6,3.15) 367(22.6,3.45) 368(22.6,3.75) 369(22.6,4.05) 370(22.6,4.35) 371(22.6,4.65) 372(22.6,4.95) 373(22.6,5.25) 374(22.6,5.55) 375(22.6,5.85) 376(22.6,6.15) 377(22.6,6.45) 378(22.6,6.75) 379(22.6,7.05) 380(22.6,7.35) 381(22.6,7.65) 382(22.6,7.95) 383(22.6,8.25) 384(22.6,8.55) 385(22.6,8.85) 386(22.6,9.15) 387(22.6,9.45) 388(22.6,9.75) 389(22.6,10.05) 390(22.6,10.35) 391(22.6,10.65) 392(22.6,10.95) 393(22.6,11.25) 394(22.6,11.55) 395(22.6,11.85) 396(22.6,12.15) 397(22.6,12.45) 398(22.6,12.75) 399(22.6,13.05) 400(22.6,13.35) 401(22.6,13.65) 402(22.6,13.95) 403(22.6,14.25) 404(22.6,14.55) 405(22.6,14.85) 406(22.6,15.15) 407(22.6,15.45) 408(22.6,15.75) 409(22.6,16.05) 410(22.6,16.35) 411(22.6,16.65) 412(22.6,16.95) 413(22.6,17.25) 414(22.6,17.55) 415(22.6,17.85) 416(22.6,18.15) 417(22.6,18.45) 418(22.6,18.75) 419(22.6,19.05) 420(22.6,19.35) 421(22.6,19.65) 422(22.6,19.95) 423(22.6,20.25) 424(22.6,20.55) 425(22.6,20.85) 426(22.6,21.15)
  rect 0.17x1.6 smd: 143(-21.15,-22.6) 144(-20.85,-22.6) 145(-20.55,-22.6) 146(-20.25,-22.6) 147(-19.95,-22.6) 148(-19.65,-22.6) 149(-19.35,-22.6) 150(-19.05,-22.6) 151(-18.75,-22.6) 152(-18.45,-22.6) 153(-18.15,-22.6) 154(-17.85,-22.6) 155(-17.55,-22.6) 156(-17.25,-22.6) 157(-16.95,-22.6) 158(-16.65,-22.6) 159(-16.35,-22.6) 160(-16.05,-22.6) 161(-15.75,-22.6) 162(-15.45,-22.6) 163(-15.15,-22.6) 164(-14.85,-22.6) 165(-14.55,-22.6) 166(-14.25,-22.6) 167(-13.95,-22.6) 168(-13.65,-22.6) 169(-13.35,-22.6) 170(-13.05,-22.6) 171(-12.75,-22.6) 172(-12.45,-22.6) 173(-12.15,-22.6) 174(-11.85,-22.6) 175(-11.55,-22.6) 176(-11.25,-22.6) 177(-10.95,-22.6) 178(-10.65,-22.6) 179(-10.35,-22.6) 180(-10.05,-22.6) 181(-9.75,-22.6) 182(-9.45,-22.6) 183(-9.15,-22.6) 184(-8.85,-22.6) 185(-8.55,-22.6) 186(-8.25,-22.6) 187(-7.95,-22.6) 188(-7.65,-22.6) 189(-7.35,-22.6) 190(-7.05,-22.6) 191(-6.75,-22.6) 192(-6.45,-22.6) 193(-6.15,-22.6) 194(-5.85,-22.6) 195(-5.55,-22.6) 196(-5.25,-22.6) 197(-4.95,-22.6) 198(-4.65,-22.6) 199(-4.35,-22.6) 200(-4.05,-22.6) 201(-3.75,-22.6) 202(-3.45,-22.6) 203(-3.15,-22.6) 204(-2.85,-22.6) 205(-2.55,-22.6) 206(-2.25,-22.6) 207(-1.95,-22.6) 208(-1.65,-22.6) 209(-1.35,-22.6) 210(-1.05,-22.6) 211(-0.75,-22.6) 212(-0.45,-22.6) 213(-0.15,-22.6) 214(0.15,-22.6) 215(0.45,-22.6) 216(0.75,-22.6) 217(1.05,-22.6) 218(1.35,-22.6) 219(1.65,-22.6) 220(1.95,-22.6) 221(2.25,-22.6) 222(2.55,-22.6) 223(2.85,-22.6) 224(3.15,-22.6) 225(3.45,-22.6) 226(3.75,-22.6) 227(4.05,-22.6) 228(4.35,-22.6) 229(4.65,-22.6) 230(4.95,-22.6) 231(5.25,-22.6) 232(5.55,-22.6) 233(5.85,-22.6) 234(6.15,-22.6) 235(6.45,-22.6) 236(6.75,-22.6) 237(7.05,-22.6) 238(7.35,-22.6) 239(7.65,-22.6) 240(7.95,-22.6) 241(8.25,-22.6) 242(8.55,-22.6) 243(8.85,-22.6) 244(9.15,-22.6) 245(9.45,-22.6) 246(9.75,-22.6) 247(10.05,-22.6) 248(10.35,-22.6) 249(10.65,-22.6) 250(10.95,-22.6) 251(11.25,-22.6) 252(11.55,-22.6) 253(11.85,-22.6) 254(12.15,-22.6) 255(12.45,-22.6) 256(12.75,-22.6) 257(13.05,-22.6) 258(13.35,-22.6) 259(13.65,-22.6) 260(13.95,-22.6) 261(14.25,-22.6) 262(14.55,-22.6) 263(14.85,-22.6) 264(15.15,-22.6) 265(15.45,-22.6) 266(15.75,-22.6) 267(16.05,-22.6) 268(16.35,-22.6) 269(16.65,-22.6) 270(16.95,-22.6) 271(17.25,-22.6) 272(17.55,-22.6) 273(17.85,-22.6) 274(18.15,-22.6) 275(18.45,-22.6) 276(18.75,-22.6) 277(19.05,-22.6) 278(19.35,-22.6) 279(19.65,-22.6) 280(19.95,-22.6) 281(20.25,-22.6) 282(20.55,-22.6) 283(20.85,-22.6) 284(21.15,-22.6) 427(21.15,22.6) 428(20.85,22.6) 429(20.55,22.6) 430(20.25,22.6) 431(19.95,22.6) 432(19.65,22.6) 433(19.35,22.6) 434(19.05,22.6) 435(18.75,22.6) 436(18.45,22.6) 437(18.15,22.6) 438(17.85,22.6) 439(17.55,22.6) 440(17.25,22.6) 441(16.95,22.6) 442(16.65,22.6) 443(16.35,22.6) 444(16.05,22.6) 445(15.75,22.6) 446(15.45,22.6) 447(15.15,22.6) 448(14.85,22.6) 449(14.55,22.6) 450(14.25,22.6) 451(13.95,22.6) 452(13.65,22.6) 453(13.35,22.6) 454(13.05,22.6) 455(12.75,22.6) 456(12.45,22.6) 457(12.15,22.6) 458(11.85,22.6) 459(11.55,22.6) 460(11.25,22.6) 461(10.95,22.6) 462(10.65,22.6) 463(10.35,22.6) 464(10.05,22.6) 465(9.75,22.6) 466(9.45,22.6) 467(9.15,22.6) 468(8.85,22.6) 469(8.55,22.6) 470(8.25,22.6) 471(7.95,22.6) 472(7.65,22.6) 473(7.35,22.6) 474(7.05,22.6) 475(6.75,22.6) 476(6.45,22.6) 477(6.15,22.6) 478(5.85,22.6) 479(5.55,22.6) 480(5.25,22.6) 481(4.95,22.6) 482(4.65,22.6) 483(4.35,22.6) 484(4.05,22.6) 485(3.75,22.6) 486(3.45,22.6) 487(3.15,22.6) 488(2.85,22.6) 489(2.55,22.6) 490(2.25,22.6) 491(1.95,22.6) 492(1.65,22.6) 493(1.35,22.6) 494(1.05,22.6) 495(0.75,22.6) 496(0.45,22.6) 497(0.15,22.6) 498(-0.15,22.6) 499(-0.45,22.6) 500(-0.75,22.6) 501(-1.05,22.6) 502(-1.35,22.6) 503(-1.65,22.6) 504(-1.95,22.6) 505(-2.25,22.6) 506(-2.55,22.6) 507(-2.85,22.6) 508(-3.15,22.6) 509(-3.45,22.6) 510(-3.75,22.6) 511(-4.05,22.6) 512(-4.35,22.6) 513(-4.65,22.6) 514(-4.95,22.6) 515(-5.25,22.6) 516(-5.55,22.6) 517(-5.85,22.6) 518(-6.15,22.6) 519(-6.45,22.6) 520(-6.75,22.6) 521(-7.05,22.6) 522(-7.35,22.6) 523(-7.65,22.6) 524(-7.95,22.6) 525(-8.25,22.6) 526(-8.55,22.6) 527(-8.85,22.6) 528(-9.15,22.6) 529(-9.45,22.6) 530(-9.75,22.6) 531(-10.05,22.6) 532(-10.35,22.6) 533(-10.65,22.6) 534(-10.95,22.6) 535(-11.25,22.6) 536(-11.55,22.6) 537(-11.85,22.6) 538(-12.15,22.6) 539(-12.45,22.6) 540(-12.75,22.6) 541(-13.05,22.6) 542(-13.35,22.6) 543(-13.65,22.6) 544(-13.95,22.6) 545(-14.25,22.6) 546(-14.55,22.6) 547(-14.85,22.6) 548(-15.15,22.6) 549(-15.45,22.6) 550(-15.75,22.6) 551(-16.05,22.6) 552(-16.35,22.6) 553(-16.65,22.6) 554(-16.95,22.6) 555(-17.25,22.6) 556(-17.55,22.6) 557(-17.85,22.6) 558(-18.15,22.6) 559(-18.45,22.6) 560(-18.75,22.6) 561(-19.05,22.6) 562(-19.35,22.6) 563(-19.65,22.6) 564(-19.95,22.6) 565(-20.25,22.6) 566(-20.55,22.6) 567(-20.85,22.6) 568(-21.15,22.6)
Top Overlay:
  circle w0.25: c-23.96,21.15 r0.125
  circle w0.6: c-20.4,20.4 r0.3
  lines w0.2: -21.4,-21.4 21.4,-21.4 21.4,21.4 -21.4,21.4 -21.4,-21.4

## SQFP44X44-576 [mm] "QFP; 576 Leads; Body 44 x 44 mm; Pitch 0.3 mm"
height 4.2
pads (576):
  rect 1.6x0.17 smd: 1(-22.6,21.45) 2(-22.6,21.15) 3(-22.6,20.85) 4(-22.6,20.55) 5(-22.6,20.25) 6(-22.6,19.95) 7(-22.6,19.65) 8(-22.6,19.35) 9(-22.6,19.05) 10(-22.6,18.75) 11(-22.6,18.45) 12(-22.6,18.15) 13(-22.6,17.85) 14(-22.6,17.55) 15(-22.6,17.25) 16(-22.6,16.95) 17(-22.6,16.65) 18(-22.6,16.35) 19(-22.6,16.05) 20(-22.6,15.75) 21(-22.6,15.45) 22(-22.6,15.15) 23(-22.6,14.85) 24(-22.6,14.55) 25(-22.6,14.25) 26(-22.6,13.95) 27(-22.6,13.65) 28(-22.6,13.35) 29(-22.6,13.05) 30(-22.6,12.75) 31(-22.6,12.45) 32(-22.6,12.15) 33(-22.6,11.85) 34(-22.6,11.55) 35(-22.6,11.25) 36(-22.6,10.95) 37(-22.6,10.65) 38(-22.6,10.35) 39(-22.6,10.05) 40(-22.6,9.75) 41(-22.6,9.45) 42(-22.6,9.15) 43(-22.6,8.85) 44(-22.6,8.55) 45(-22.6,8.25) 46(-22.6,7.95) 47(-22.6,7.65) 48(-22.6,7.35) 49(-22.6,7.05) 50(-22.6,6.75) 51(-22.6,6.45) 52(-22.6,6.15) 53(-22.6,5.85) 54(-22.6,5.55) 55(-22.6,5.25) 56(-22.6,4.95) 57(-22.6,4.65) 58(-22.6,4.35) 59(-22.6,4.05) 60(-22.6,3.75) 61(-22.6,3.45) 62(-22.6,3.15) 63(-22.6,2.85) 64(-22.6,2.55) 65(-22.6,2.25) 66(-22.6,1.95) 67(-22.6,1.65) 68(-22.6,1.35) 69(-22.6,1.05) 70(-22.6,0.75) 71(-22.6,0.45) 72(-22.6,0.15) 73(-22.6,-0.15) 74(-22.6,-0.45) 75(-22.6,-0.75) 76(-22.6,-1.05) 77(-22.6,-1.35) 78(-22.6,-1.65) 79(-22.6,-1.95) 80(-22.6,-2.25) 81(-22.6,-2.55) 82(-22.6,-2.85) 83(-22.6,-3.15) 84(-22.6,-3.45) 85(-22.6,-3.75) 86(-22.6,-4.05) 87(-22.6,-4.35) 88(-22.6,-4.65) 89(-22.6,-4.95) 90(-22.6,-5.25) 91(-22.6,-5.55) 92(-22.6,-5.85) 93(-22.6,-6.15) 94(-22.6,-6.45) 95(-22.6,-6.75) 96(-22.6,-7.05) 97(-22.6,-7.35) 98(-22.6,-7.65) 99(-22.6,-7.95) 100(-22.6,-8.25) 101(-22.6,-8.55) 102(-22.6,-8.85) 103(-22.6,-9.15) 104(-22.6,-9.45) 105(-22.6,-9.75) 106(-22.6,-10.05) 107(-22.6,-10.35) 108(-22.6,-10.65) 109(-22.6,-10.95) 110(-22.6,-11.25) 111(-22.6,-11.55) 112(-22.6,-11.85) 113(-22.6,-12.15) 114(-22.6,-12.45) 115(-22.6,-12.75) 116(-22.6,-13.05) 117(-22.6,-13.35) 118(-22.6,-13.65) 119(-22.6,-13.95) 120(-22.6,-14.25) 121(-22.6,-14.55) 122(-22.6,-14.85) 123(-22.6,-15.15) 124(-22.6,-15.45) 125(-22.6,-15.75) 126(-22.6,-16.05) 127(-22.6,-16.35) 128(-22.6,-16.65) 129(-22.6,-16.95) 130(-22.6,-17.25) 131(-22.6,-17.55) 132(-22.6,-17.85) 133(-22.6,-18.15) 134(-22.6,-18.45) 135(-22.6,-18.75) 136(-22.6,-19.05) 137(-22.6,-19.35) 138(-22.6,-19.65) 139(-22.6,-19.95) 140(-22.6,-20.25) 141(-22.6,-20.55) 142(-22.6,-20.85) 143(-22.6,-21.15) 144(-22.6,-21.45) 289(22.6,-21.45) 290(22.6,-21.15) 291(22.6,-20.85) 292(22.6,-20.55) 293(22.6,-20.25) 294(22.6,-19.95) 295(22.6,-19.65) 296(22.6,-19.35) 297(22.6,-19.05) 298(22.6,-18.75) 299(22.6,-18.45) 300(22.6,-18.15) 301(22.6,-17.85) 302(22.6,-17.55) 303(22.6,-17.25) 304(22.6,-16.95) 305(22.6,-16.65) 306(22.6,-16.35) 307(22.6,-16.05) 308(22.6,-15.75) 309(22.6,-15.45) 310(22.6,-15.15) 311(22.6,-14.85) 312(22.6,-14.55) 313(22.6,-14.25) 314(22.6,-13.95) 315(22.6,-13.65) 316(22.6,-13.35) 317(22.6,-13.05) 318(22.6,-12.75) 319(22.6,-12.45) 320(22.6,-12.15) 321(22.6,-11.85) 322(22.6,-11.55) 323(22.6,-11.25) 324(22.6,-10.95) 325(22.6,-10.65) 326(22.6,-10.35) 327(22.6,-10.05) 328(22.6,-9.75) 329(22.6,-9.45) 330(22.6,-9.15) 331(22.6,-8.85) 332(22.6,-8.55) 333(22.6,-8.25) 334(22.6,-7.95) 335(22.6,-7.65) 336(22.6,-7.35) 337(22.6,-7.05) 338(22.6,-6.75) 339(22.6,-6.45) 340(22.6,-6.15) 341(22.6,-5.85) 342(22.6,-5.55) 343(22.6,-5.25) 344(22.6,-4.95) 345(22.6,-4.65) 346(22.6,-4.35) 347(22.6,-4.05) 348(22.6,-3.75) 349(22.6,-3.45) 350(22.6,-3.15) 351(22.6,-2.85) 352(22.6,-2.55) 353(22.6,-2.25) 354(22.6,-1.95) 355(22.6,-1.65) 356(22.6,-1.35) 357(22.6,-1.05) 358(22.6,-0.75) 359(22.6,-0.45) 360(22.6,-0.15) 361(22.6,0.15) 362(22.6,0.45) 363(22.6,0.75) 364(22.6,1.05) 365(22.6,1.35) 366(22.6,1.65) 367(22.6,1.95) 368(22.6,2.25) 369(22.6,2.55) 370(22.6,2.85) 371(22.6,3.15) 372(22.6,3.45) 373(22.6,3.75) 374(22.6,4.05) 375(22.6,4.35) 376(22.6,4.65) 377(22.6,4.95) 378(22.6,5.25) 379(22.6,5.55) 380(22.6,5.85) 381(22.6,6.15) 382(22.6,6.45) 383(22.6,6.75) 384(22.6,7.05) 385(22.6,7.35) 386(22.6,7.65) 387(22.6,7.95) 388(22.6,8.25) 389(22.6,8.55) 390(22.6,8.85) 391(22.6,9.15) 392(22.6,9.45) 393(22.6,9.75) 394(22.6,10.05) 395(22.6,10.35) 396(22.6,10.65) 397(22.6,10.95) 398(22.6,11.25) 399(22.6,11.55) 400(22.6,11.85) 401(22.6,12.15) 402(22.6,12.45) 403(22.6,12.75) 404(22.6,13.05) 405(22.6,13.35) 406(22.6,13.65) 407(22.6,13.95) 408(22.6,14.25) 409(22.6,14.55) 410(22.6,14.85) 411(22.6,15.15) 412(22.6,15.45) 413(22.6,15.75) 414(22.6,16.05) 415(22.6,16.35) 416(22.6,16.65) 417(22.6,16.95) 418(22.6,17.25) 419(22.6,17.55) 420(22.6,17.85) 421(22.6,18.15) 422(22.6,18.45) 423(22.6,18.75) 424(22.6,19.05) 425(22.6,19.35) 426(22.6,19.65) 427(22.6,19.95) 428(22.6,20.25) 429(22.6,20.55) 430(22.6,20.85) 431(22.6,21.15) 432(22.6,21.45)
  rect 0.17x1.6 smd: 145(-21.45,-22.6) 146(-21.15,-22.6) 147(-20.85,-22.6) 148(-20.55,-22.6) 149(-20.25,-22.6) 150(-19.95,-22.6) 151(-19.65,-22.6) 152(-19.35,-22.6) 153(-19.05,-22.6) 154(-18.75,-22.6) 155(-18.45,-22.6) 156(-18.15,-22.6) 157(-17.85,-22.6) 158(-17.55,-22.6) 159(-17.25,-22.6) 160(-16.95,-22.6) 161(-16.65,-22.6) 162(-16.35,-22.6) 163(-16.05,-22.6) 164(-15.75,-22.6) 165(-15.45,-22.6) 166(-15.15,-22.6) 167(-14.85,-22.6) 168(-14.55,-22.6) 169(-14.25,-22.6) 170(-13.95,-22.6) 171(-13.65,-22.6) 172(-13.35,-22.6) 173(-13.05,-22.6) 174(-12.75,-22.6) 175(-12.45,-22.6) 176(-12.15,-22.6) 177(-11.85,-22.6) 178(-11.55,-22.6) 179(-11.25,-22.6) 180(-10.95,-22.6) 181(-10.65,-22.6) 182(-10.35,-22.6) 183(-10.05,-22.6) 184(-9.75,-22.6) 185(-9.45,-22.6) 186(-9.15,-22.6) 187(-8.85,-22.6) 188(-8.55,-22.6) 189(-8.25,-22.6) 190(-7.95,-22.6) 191(-7.65,-22.6) 192(-7.35,-22.6) 193(-7.05,-22.6) 194(-6.75,-22.6) 195(-6.45,-22.6) 196(-6.15,-22.6) 197(-5.85,-22.6) 198(-5.55,-22.6) 199(-5.25,-22.6) 200(-4.95,-22.6) 201(-4.65,-22.6) 202(-4.35,-22.6) 203(-4.05,-22.6) 204(-3.75,-22.6) 205(-3.45,-22.6) 206(-3.15,-22.6) 207(-2.85,-22.6) 208(-2.55,-22.6) 209(-2.25,-22.6) 210(-1.95,-22.6) 211(-1.65,-22.6) 212(-1.35,-22.6) 213(-1.05,-22.6) 214(-0.75,-22.6) 215(-0.45,-22.6) 216(-0.15,-22.6) 217(0.15,-22.6) 218(0.45,-22.6) 219(0.75,-22.6) 220(1.05,-22.6) 221(1.35,-22.6) 222(1.65,-22.6) 223(1.95,-22.6) 224(2.25,-22.6) 225(2.55,-22.6) 226(2.85,-22.6) 227(3.15,-22.6) 228(3.45,-22.6) 229(3.75,-22.6) 230(4.05,-22.6) 231(4.35,-22.6) 232(4.65,-22.6) 233(4.95,-22.6) 234(5.25,-22.6) 235(5.55,-22.6) 236(5.85,-22.6) 237(6.15,-22.6) 238(6.45,-22.6) 239(6.75,-22.6) 240(7.05,-22.6) 241(7.35,-22.6) 242(7.65,-22.6) 243(7.95,-22.6) 244(8.25,-22.6) 245(8.55,-22.6) 246(8.85,-22.6) 247(9.15,-22.6) 248(9.45,-22.6) 249(9.75,-22.6) 250(10.05,-22.6) 251(10.35,-22.6) 252(10.65,-22.6) 253(10.95,-22.6) 254(11.25,-22.6) 255(11.55,-22.6) 256(11.85,-22.6) 257(12.15,-22.6) 258(12.45,-22.6) 259(12.75,-22.6) 260(13.05,-22.6) 261(13.35,-22.6) 262(13.65,-22.6) 263(13.95,-22.6) 264(14.25,-22.6) 265(14.55,-22.6) 266(14.85,-22.6) 267(15.15,-22.6) 268(15.45,-22.6) 269(15.75,-22.6) 270(16.05,-22.6) 271(16.35,-22.6) 272(16.65,-22.6) 273(16.95,-22.6) 274(17.25,-22.6) 275(17.55,-22.6) 276(17.85,-22.6) 277(18.15,-22.6) 278(18.45,-22.6) 279(18.75,-22.6) 280(19.05,-22.6) 281(19.35,-22.6) 282(19.65,-22.6) 283(19.95,-22.6) 284(20.25,-22.6) 285(20.55,-22.6) 286(20.85,-22.6) 287(21.15,-22.6) 288(21.45,-22.6) 433(21.45,22.6) 434(21.15,22.6) 435(20.85,22.6) 436(20.55,22.6) 437(20.25,22.6) 438(19.95,22.6) 439(19.65,22.6) 440(19.35,22.6) 441(19.05,22.6) 442(18.75,22.6) 443(18.45,22.6) 444(18.15,22.6) 445(17.85,22.6) 446(17.55,22.6) 447(17.25,22.6) 448(16.95,22.6) 449(16.65,22.6) 450(16.35,22.6) 451(16.05,22.6) 452(15.75,22.6) 453(15.45,22.6) 454(15.15,22.6) 455(14.85,22.6) 456(14.55,22.6) 457(14.25,22.6) 458(13.95,22.6) 459(13.65,22.6) 460(13.35,22.6) 461(13.05,22.6) 462(12.75,22.6) 463(12.45,22.6) 464(12.15,22.6) 465(11.85,22.6) 466(11.55,22.6) 467(11.25,22.6) 468(10.95,22.6) 469(10.65,22.6) 470(10.35,22.6) 471(10.05,22.6) 472(9.75,22.6) 473(9.45,22.6) 474(9.15,22.6) 475(8.85,22.6) 476(8.55,22.6) 477(8.25,22.6) 478(7.95,22.6) 479(7.65,22.6) 480(7.35,22.6) 481(7.05,22.6) 482(6.75,22.6) 483(6.45,22.6) 484(6.15,22.6) 485(5.85,22.6) 486(5.55,22.6) 487(5.25,22.6) 488(4.95,22.6) 489(4.65,22.6) 490(4.35,22.6) 491(4.05,22.6) 492(3.75,22.6) 493(3.45,22.6) 494(3.15,22.6) 495(2.85,22.6) 496(2.55,22.6) 497(2.25,22.6) 498(1.95,22.6) 499(1.65,22.6) 500(1.35,22.6) 501(1.05,22.6) 502(0.75,22.6) 503(0.45,22.6) 504(0.15,22.6) 505(-0.15,22.6) 506(-0.45,22.6) 507(-0.75,22.6) 508(-1.05,22.6) 509(-1.35,22.6) 510(-1.65,22.6) 511(-1.95,22.6) 512(-2.25,22.6) 513(-2.55,22.6) 514(-2.85,22.6) 515(-3.15,22.6) 516(-3.45,22.6) 517(-3.75,22.6) 518(-4.05,22.6) 519(-4.35,22.6) 520(-4.65,22.6) 521(-4.95,22.6) 522(-5.25,22.6) 523(-5.55,22.6) 524(-5.85,22.6) 525(-6.15,22.6) 526(-6.45,22.6) 527(-6.75,22.6) 528(-7.05,22.6) 529(-7.35,22.6) 530(-7.65,22.6) 531(-7.95,22.6) 532(-8.25,22.6) 533(-8.55,22.6) 534(-8.85,22.6) 535(-9.15,22.6) 536(-9.45,22.6) 537(-9.75,22.6) 538(-10.05,22.6) 539(-10.35,22.6) 540(-10.65,22.6) 541(-10.95,22.6) 542(-11.25,22.6) 543(-11.55,22.6) 544(-11.85,22.6) 545(-12.15,22.6) 546(-12.45,22.6) 547(-12.75,22.6) 548(-13.05,22.6) 549(-13.35,22.6) 550(-13.65,22.6) 551(-13.95,22.6) 552(-14.25,22.6) 553(-14.55,22.6) 554(-14.85,22.6) 555(-15.15,22.6) 556(-15.45,22.6) 557(-15.75,22.6) 558(-16.05,22.6) 559(-16.35,22.6) 560(-16.65,22.6) 561(-16.95,22.6) 562(-17.25,22.6) 563(-17.55,22.6) 564(-17.85,22.6) 565(-18.15,22.6) 566(-18.45,22.6) 567(-18.75,22.6) 568(-19.05,22.6) 569(-19.35,22.6) 570(-19.65,22.6) 571(-19.95,22.6) 572(-20.25,22.6) 573(-20.55,22.6) 574(-20.85,22.6) 575(-21.15,22.6) 576(-21.45,22.6)
Top Overlay:
  circle w0.6: c-20.4,20.4 r0.3
  circle w0.25: c-23.96,21.45 r0.125
  lines w0.2: -21.4,-21.4 -21.4,21.4 21.4,21.4 21.4,-21.4 -21.4,-21.4